# Altium schematic symbol library Schlib.SchLib: 8 symbols
Pins are listed as number, name and electrical type; pins without a type are passive.

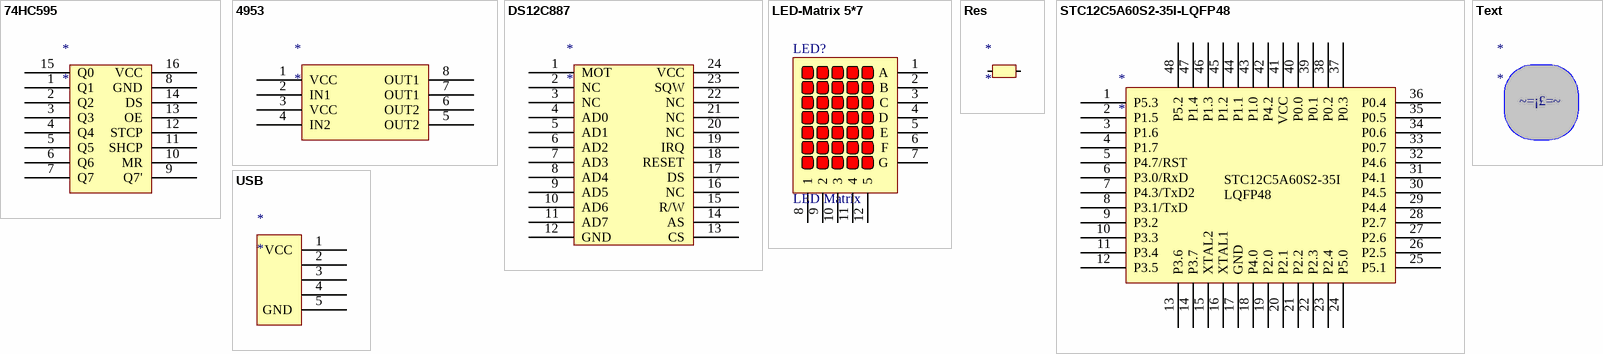
[diagram p0: symbols 74HC595 to USB]

## 74HC595
designator *
pins: 1 Q1, 2 Q2, 3 Q3, 4 Q4, 5 Q5, 6 Q6, 7 Q7, 8 GND, 9 Q7', 10 MR, 11 SHCP, 12 STCP, 13 OE, 14 DS, 15 Q0, 16 VCC

## 4953
designator *
pins: 1 VCC, 2 IN1, 3 VCC, 4 IN2, 5 OUT2, 6 OUT2, 7 OUT1, 8 OUT1

## DS12C887
designator *
pins: 1 MOT, 2 NC, 3 NC, 4 AD0, 5 AD1, 6 AD2, 7 AD3, 8 AD4, 9 AD5, 10 AD6, 11 AD7, 12 GND, 13 CS, 14 AS, 15 R/W, 16 NC, 17 DS, 18 RESET, 19 IRQ, 20 NC, 21 NC, 22 NC, 23 SQW, 24 VCC

## LED-Matrix 5*7
designator LED?, comment LED Matrix
MinimumIntensity: 360 ucd; Note: IF = 5 mA; Colour: High Efficiency Red (HER); Note: Pins 1 and 6 are redundant Anodes.; Published: 8-Jun-2000; LatestRevisionDate: 17-Dec-2003; LatestRevisionNote: Schematic revised, PCB Footprint replaced.; DatasheetDocument: 19-Feb-2002; PackageDocument: 19-Feb-2002; PackageReference: LEDDIP-10; Publisher: Altium Limited; ComponentLink1Description: Manufacturer Link; ComponentLink1URL: http://www.agilent.com/
footprint LED-Matrix 5*7 (LED)
simulation model HDSP_A211 (SUBCKT)
pins: 1 A "Cathode", 2 B "Cathode", 3 C "Cathode", 4 D "Cathode", 5 E "Cathode", 6 F "Cathode", 7 G "Cathode", 8 1 "Anode", 9 2 "Anode", 10 3 "Anode", 11 4 "Anode", 12 5 "Anode"

## Res
designator *
pins: 0, 1

## STC12C5A60S2-35I-LQFP48
designator *
pins: 1 P5.3, 2 P1.5, 3 P1.6, 4 P1.7, 5 P4.7/RST, 6 P3.0/RxD, 7 P4.3/TxD2, 8 P3.1/TxD, 9 P3.2, 10 P3.3, 11 P3.4, 12 P3.5, 13 P3.6, 14 P3.7, 15 XTAL2, 16 XTAL1, 17 GND, 18 P4.0, 19 P2.0, 20 P2.1, 21 P2.2, 22 P2.3, 23 P2.4, 24 P5.0, 25 P5.1, 26 P2.5, 27 P2.6, 28 P2.7, 29 P4.4, 30 P4.5, 31 P4.1, 32 P4.6, 33 P0.7, 34 P0.6, 35 P0.5, 36 P0.4, 37 P0.3, 38 P0.2, 39 P0.1, 40 P0.0, 41 VCC, 42 P4.2, 43 P1.0, 44 P1.1, 45 P1.2, 46 P1.3, 47 P1.4, 48 P5.2
text: STC12C5A60S2-35I / LQFP48

## Text
designator *
text: ~=¡£=~

## USB
designator *
pins: 1 VCC, 2, 3, 4, 5 GND